# EAGLE library part MAX2771ETI+ (library U-Maxim-MAX2771-Multiband-Universal-GNSS-Receiver)
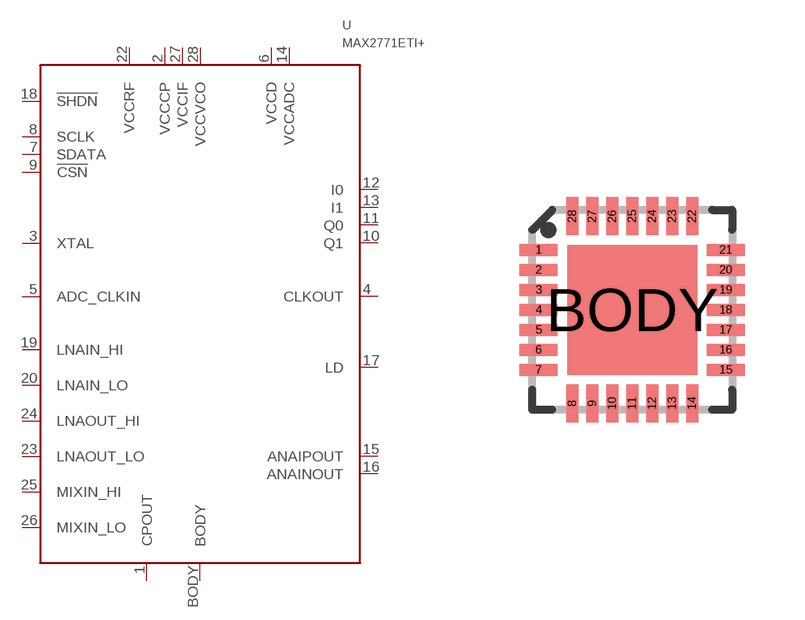
[diagram p0: symbol with the pads of 90-0023; footprint 90-0023]

Designator prefix -

## MAX2771ETI+  [90-0023]
1  CPOUT  out
2  VCCCP  pwr
3  XTAL  in
4  CLKOUT  out
5  ADC_CLKIN  in
6  VCCD  pwr
7  SDATA
8  SCLK  in
9  !CSN  in
10  Q1  out
11  Q0  out
12  I0  out
13  I1  out
14  VCCADC  pwr
15  ANAIPOUT  out
16  ANAINOUT  out
17  LD  out
18  !SHDN  in
19  LNAIN_HI  in
20  LNAIN_LO  in
22  VCCRF  pwr
23  LNAOUT_LO  out
24  LNAOUT_HI  out
25  MIXIN_HI  in
26  MIXIN_LO  in
27  VCCIF  pwr
28  VCCVCO  pwr
BODY  BODY  pwr

## Footprint 90-0023 (pad centres in mm)
smd 0.95 x 0.3: 1 -2.34,1.5; 2 -2.34,1; 3 -2.34,0.5; 4 -2.34,0; 5 -2.34,-0.5; 6 -2.34,-1; 7 -2.34,-1.5; 15 2.34,-1.5; 16 2.34,-1; 17 2.34,-0.5; 18 2.34,0; 19 2.34,0.5; 20 2.34,1; 21 2.34,1.5
smd 0.3 x 0.95: 8 -1.5,-2.34; 9 -1,-2.34; 10 -0.5,-2.34; 11 0,-2.34; 12 0.5,-2.34; 13 1,-2.34; 14 1.5,-2.34; 22 1.5,2.34; 23 1,2.34; 24 0.5,2.34; 25 0,2.34; 26 -0.5,2.34; 27 -1,2.34; 28 -1.5,2.34
smd 3.25 x 3.25: BODY 0,0